# Altium schematic symbol library Schlib1.SchLib: 4 symbols
Pins are listed as number, name and electrical type; pins without a type are passive.

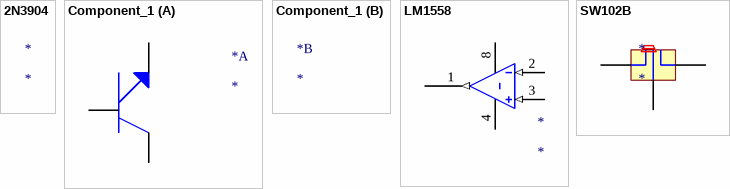
[diagram p0: symbols 2N3904 to SW102B]

## 2N3904
designator *

## Component_1
designator *
part A pins: 12, 13, 14

## LM1558
designator *
pins: 1 (out), 2 (in), 3 (in), 4, 8

## SW102B
designator *
pins: 18, 19, 20